# EAGLE library part SLVU2.8-4A1 (library TVS_diodes)
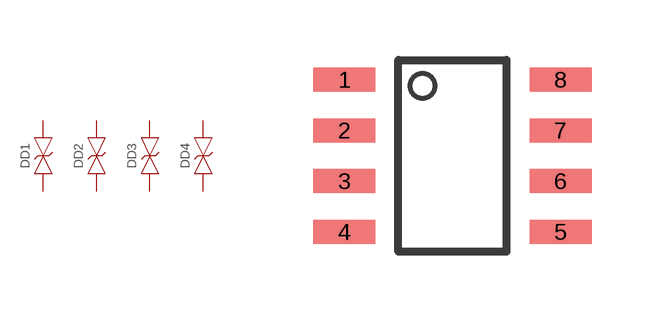
[diagram p3: symbol with the pads of SOIC8; footprint SOIC8]

Designator prefix D; gates D1=TVS_BIDIRECT D2=TVS_BIDIRECT D3=TVS_BIDIRECT D4=TVS_BIDIRECT

## SLVU2.8-4A1 (DIGIKEY#: 497-10115-2-ND; MANF: STMicroelectronics; MANF#: SLVU2.8-4A1)  [SOIC8]
1  D1:A  pas
2  D1:C  pas
3  D2:A  pas
4  D2:C  pas
5  D3:A  pas
6  D3:C  pas
7  D4:A  pas
8  D4:C  pas

## Footprint SOIC8 (pad centres in mm)
https://www.ti.com/lit/ds/snvsaq5a/snvsaq5a.pdf?ts=1602424164509
smd 1.55 x 0.6: 1 -2.7,1.905; 2 -2.7,0.635; 3 -2.7,-0.635; 4 -2.7,-1.905; 5 2.7,-1.905; 6 2.7,-0.635; 7 2.7,0.635; 8 2.7,1.905